# Altium footprint library VAR-TACT-6.PcbLib: 1 footprints
Each footprint in its own frame and in the unit in brackets; x right, y up, seen from the top. Pads: shape width x height; smd on the part's side, far side on the other; paste and mask are expansions set on the pad; w line width, h text height; cw(c..) or ccw(c..) is an arc to the next point about the centre after c.
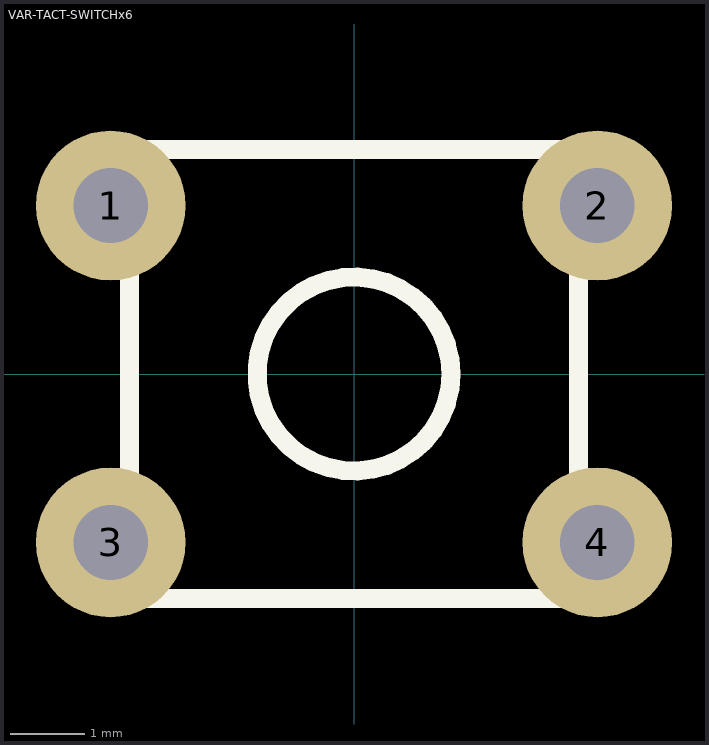
[diagram p0: the footprint, top view; thin cyan lines are the x and y axes]

## VAR-TACT-SWITCHx6 [mm] "Tact Switch 4 Contactos 6x6mm"
pads (4):
  round 2 hole 1: 1(-3.25,2.25) 2(3.25,2.25) 3(-3.25,-2.25) 4(3.25,-2.25)
Top Overlay:
  circle w0.254: c0,0 r1.295
  lines w0.254: -3,-3 3,-3 3,3 -3,3 -3,-3
3D body "VAR-TACT-6.STEP": height 9.5, standoff -3.5, extent -3.7,-3 3.95,3